# Altium schematic symbol library Maxim.SchLib: 1 symbol
Pins are listed as number, name and electrical type; pins without a type are passive.

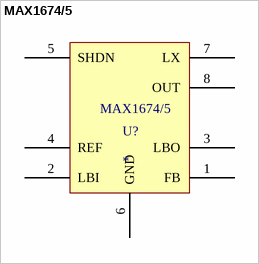
[diagram p0: symbol MAX1674/5]

## MAX1674/5
designator U?
High-Efficiency, Low-Supply-Current, / Compact, Step-Up DC-DC Converters; ComponentLink1Description: Datasheet; ComponentLink1URL: https://datasheets.maximintegrated.com/en/ds/MAX1674-MAX1676.pdf
pins: 1 FB, 2 LBI, 3 LBO, 4 REF, 5 SHDN, 6 GND, 7 LX, 8 OUT